# Altium schematic symbol library LNK302P.SchLib: 1 symbol
Pins are listed as number, name and electrical type; pins without a type are passive.

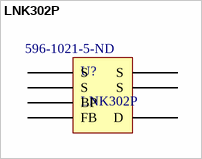
[diagram p0: symbol LNK302P]

## LNK302P
designator U?  Supplier Part Number 1: 596-1021-5-ND
LNK302P DIP; Supplier 1: Digi-Key
footprint LNK302 - duplicate
pins: 1 S, 2 S, 3 BP, 4 FB, 5 D, 7 S, 8 S